# Altium footprint library PCB - CONNECTOR - JST - JST SM08B-SURS-TF.PCBLIB: 1 footprints
Each footprint in its own frame and in the unit in brackets; x right, y up, seen from the top. Pads: shape width x height; smd on the part's side, far side on the other; paste and mask are expansions set on the pad; w line width, h text height; cw(c..) or ccw(c..) is an arc to the next point about the centre after c.
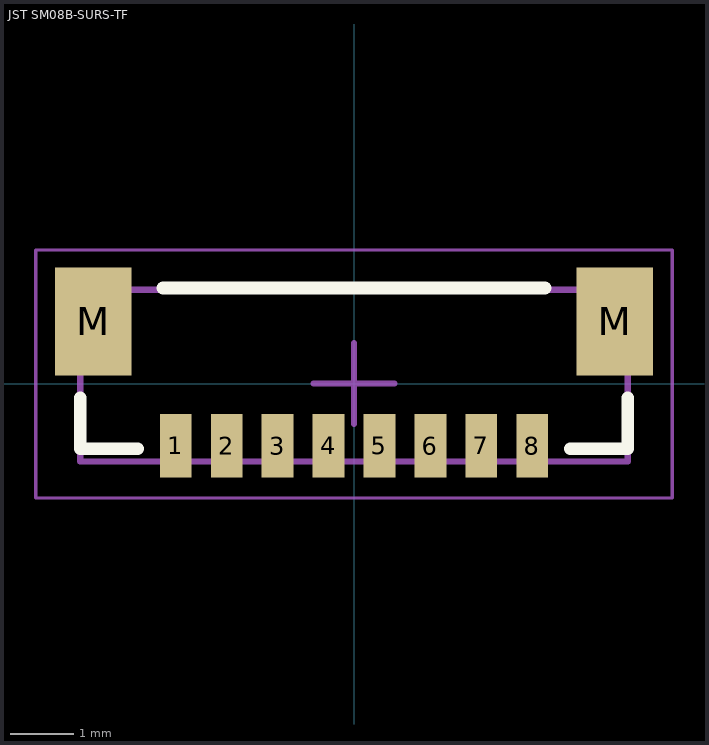
[diagram p0: the footprint, top view; thin cyan lines are the x and y axes]

## JST SM08B-SURS-TF [mm] "1.0mm pitch/Disconnectable Crimp style connector"
height 2.95
pads (10):
  rect 0.5x1 smd: 1(-2.8,-0.975) 2(-2,-0.975) 3(-1.2,-0.975) 4(-0.4,-0.975) 5(0.4,-0.975) 6(1.2,-0.975) 7(2,-0.975) 8(2.8,-0.975)
  rect 1.2x1.7 smd: M(-4.1,0.975) M(4.1,0.975)
Top Overlay:
  lines w0.2: -4.3,-0.225 -4.3,-1.025 -3.4,-1.025 ; -3,1.5 3,1.5 ; 3.4,-1.025 4.3,-1.025 4.3,-0.225
Mechanical 13:
  lines w0.1: -4.3,-1.225 -4.3,1.475 4.3,1.475 4.3,-1.225 -4.3,-1.225
Mechanical 15:
  lines w0.05: -5,-1.8 5,-1.8 5,2.1 -5,2.1 -5,-1.8
  lines w0.1: -0.635,0 0.635,0 ; 0,-0.635 0,0.635
3D body "SM08B-SURS-TF.STEP": height 1.75, standoff 0, extent -4.3,-1.23 4.3,1.47